# Altium footprint library canDrive_comp_pcb_lib.PcbLib: 33 footprints (part 1 of 3)
Each footprint in its own frame and in the unit in brackets; x right, y up, seen from the top. Pads: shape width x height; smd on the part's side, far side on the other; paste and mask are expansions set on the pad; w line width, h text height; cw(c..) or ccw(c..) is an arc to the next point about the centre after c.
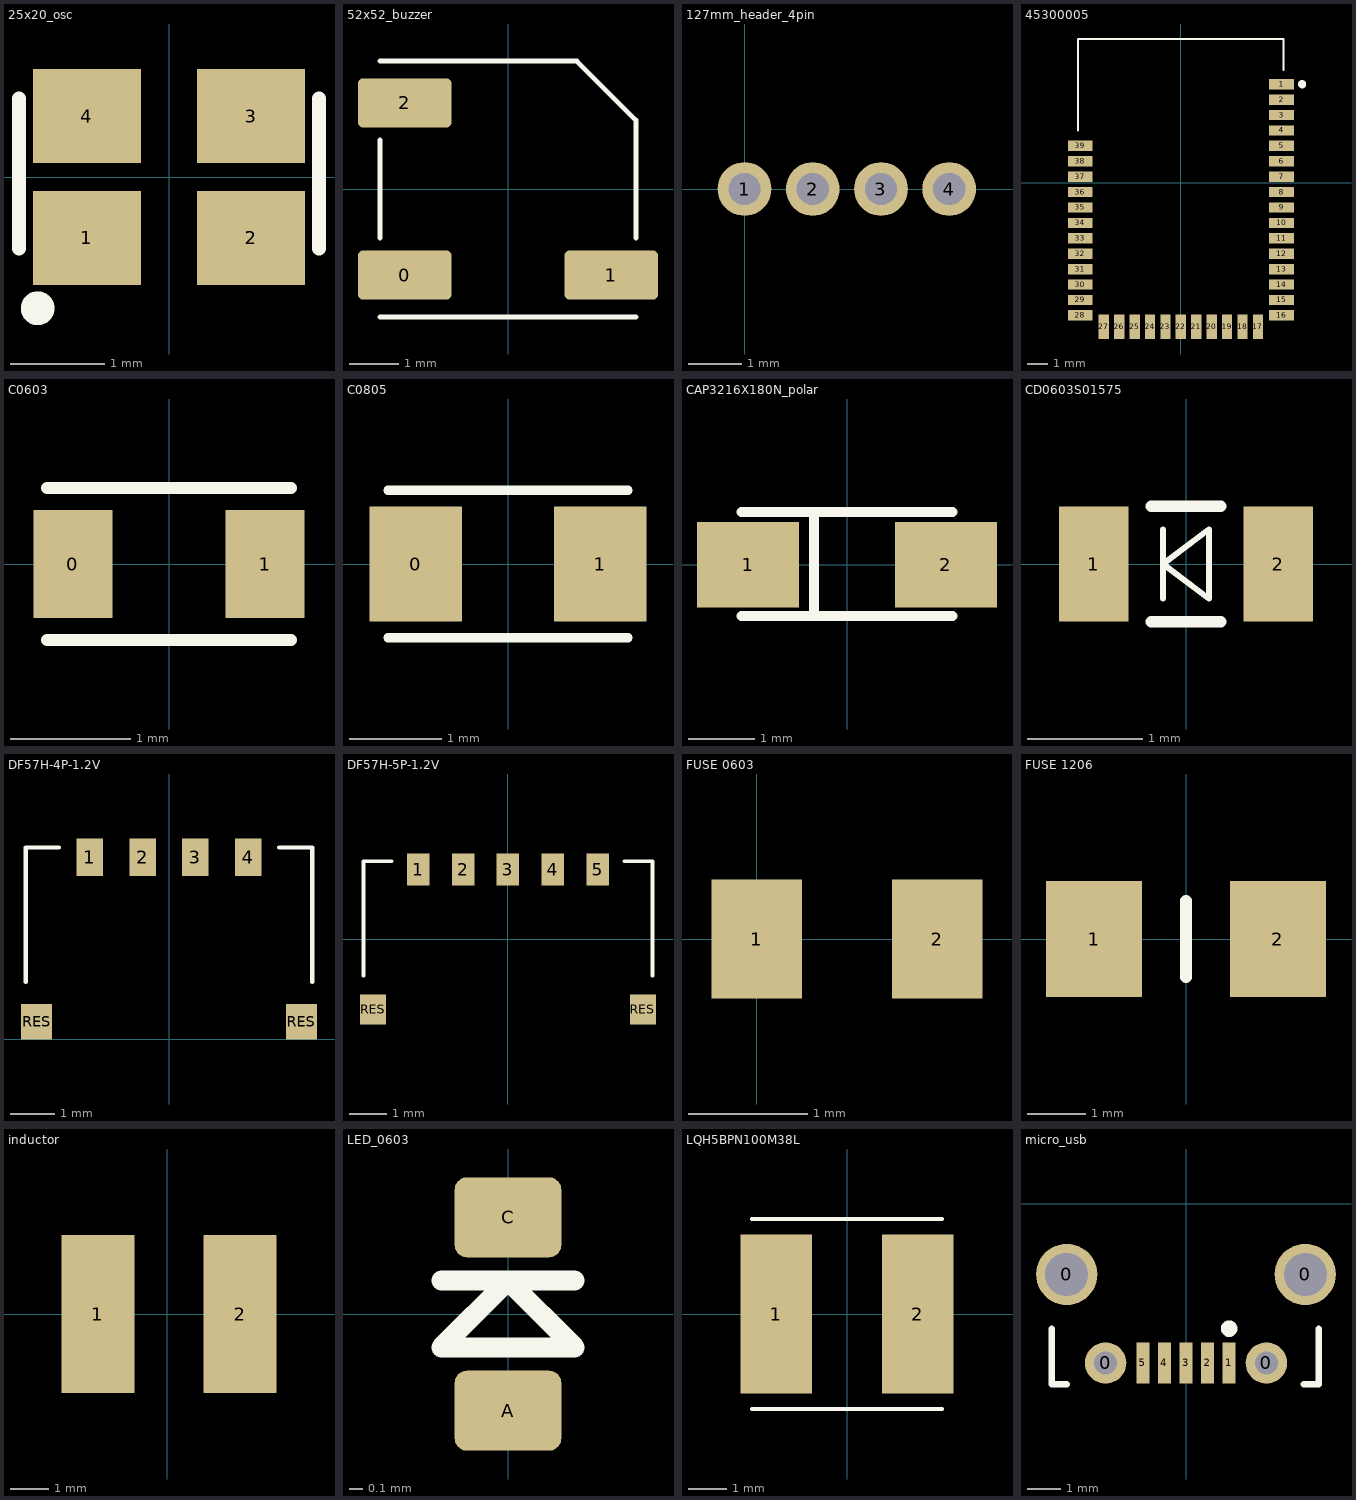
[diagram p0: the footprints below, top view; thin cyan lines are the x and y axes]

## 25x20_osc [mm]
pads (4):
  rect 1.15x1 smd paste+0: 1(-0.875,-0.65) 2(0.875,-0.65) 3(0.875,0.65) 4(-0.875,0.65)
Top Overlay:
  circle w0.2: c-1.4,-1.4 r0.08
  lines w0.15: -1.6,-0.762 -1.6,0.838 ; 1.6,-0.762 1.6,0.838
3D body "3dmodel.step": height 0.52, standoff 0, extent -1.25,-1 1.25,1

## 52x52_buzzer [mm]
pads (3):
  rrect20% 1.9x1 smd: 0(-2.1,-1.75) 1(2.1,-1.75) 2(-2.1,1.75)
Top Overlay:
  lines w0.1: -2.6,-2.6 2.6,-2.6 ; -2.6,-1 -2.6,1 ; -2.6,2.6 1.4,2.6 2.6,1.4 2.6,-1
3D body: height 19.9, standoff -4.8, extent 0.1,-3.5 0.1,-3.5
3D body: height 2, standoff 0, extent -2.6,-2.6 2.6,2.6

## 127mm_header_4pin [mm]
pads (4):
  round 1 hole 0.6: 1(0,0) 2(1.27,0) 3(2.54,0) 4(3.81,0)
Bottom Overlay:
  lines w0.2: -0.885,0 -0.885,-1 4.7,-1 4.7,1 0,1

## 45300005 [mm]
pads (39):
  rect 1.2x0.5 smd: 1(4.9,4.8) 2(4.9,4.05) 3(4.9,3.3) 4(4.9,2.55) 5(4.9,1.8) 6(4.9,1.05) 7(4.9,0.3) 8(4.9,-0.45) 9(4.9,-1.2) 10(4.9,-1.95) 11(4.9,-2.7) 12(4.9,-3.45) 13(4.9,-4.2) 14(4.9,-4.95) 15(4.9,-5.7) 16(4.9,-6.45) 28(-4.9,-6.45) 29(-4.9,-5.7) 30(-4.9,-4.95) 31(-4.9,-4.2) 32(-4.9,-3.45) 33(-4.9,-2.7) 34(-4.9,-1.95) 35(-4.9,-1.2) 36(-4.9,-0.45) 37(-4.9,0.3) 38(-4.9,1.05) 39(-4.9,1.8)
  rect 0.5x1.2 smd: 17(3.75,-7) 18(3,-7) 19(2.25,-7) 20(1.5,-7) 21(0.75,-7) 22(0,-7) 23(-0.75,-7) 24(-1.5,-7) 25(-2.25,-7) 26(-3,-7) 27(-3.75,-7)
Top Overlay:
  lines w0.1: -5,2.55 -5,7 5,7 5,5.5
  lines w0.2: 5.9,4.7 ccw(c5.9,4.8) 5.9,4.9 ccw(c5.9,4.8) 5.9,4.7
3D body "453-00005.stp": height 2.3, standoff 0, extent -5,-7 5,7

## C0603 [mm] "Imperial 0603"
pads (2):
  rect 0.66x0.9 smd: 0(-0.8,0) 1(0.8,0)
Top Overlay:
  lines w0.1: -1.016,-0.635 1.016,-0.635 ; -1.016,0.635 1.016,0.635
3D body "Cap0603.step": height 0.78, standoff -0.02, extent -0.8,-0.4 0.8,0.4

## C0805 [mm] "Imperial 0805"
pads (2):
  rect 1x1.25 smd: 0(-1,0) 1(1,0)
Top Overlay:
  lines w0.1: -1.3,-0.8 1.3,-0.8 ; -1.3,0.8 1.3,0.8
3D body "Cap0805.step": height 0.9, standoff 0, extent -1,-0.625 1,0.625

## CAP3216X180N_polar [mm]
pads (2):
  rect 1.55x1.3 smd: 1(-1.5,0) 2(1.5,0)
Top Overlay:
  lines w0.1: -0.6,0.792 -0.5,0.792 -0.55,0.792
  lines w0.15: -1.6,-0.775 1.6,-0.775 ; -1.6,0.8 1.6,0.8 ; -0.5,-0.775 -0.5,0.792
3D body "TAJA475K016RNJV.stp": height 1.8, standoff 0, extent -1.6,-0.775 1.6,0.775

## CD0603S01575 [mm]
pads (2):
  rect 0.6x1 smd: 1(-0.8,0) 2(0.8,0)
Top Overlay:
  lines w0.05: -0.2,-0.3 -0.2,0.3 ; -0.2,0 0.2,0.3 0.2,-0.3 -0.2,0
  lines w0.1: -0.3,-0.5 0.3,-0.5 ; -0.3,0.5 0.3,0.5

## DF57H-4P-1.2V [mm] "DF57H-4P-1.2V Hirose HDR Lighting Connector"
pads (6):
  rect 0.6x0.85 smd: 1(-1.8,4.125) 2(-0.6,4.125) 3(0.6,4.125) 4(1.8,4.125)
  rect 0.7x0.8 smd: RES(-3,0.4) RES(3,0.4)
Top Overlay:
  lines w0.1: -3.25,1.3 -3.25,4.35 -2.5,4.35 ; 2.5,4.35 3.25,4.35 3.25,1.3
3D body "DF57H-4P-1.2V.stp": height 1.38, standoff -0.02, extent -3.175,0.111 3.325,4.461

## DF57H-5P-1.2V [mm] "DF57H-4P-1.2V Hirose HDR Lighting Connector"
pads (7):
  rect 0.6x0.85 smd: 1(-2.4,1.863) 2(-1.2,1.863) 3(0,1.863) 4(1.2,1.863) 5(2.4,1.863)
  rect 0.7x0.8 smd: RES(-3.6,-1.863) RES(3.6,-1.863)
Top Overlay:
  lines w0.1: -3.85,-0.962 -3.85,2.087 -3.1,2.087 ; 3.1,2.087 3.85,2.087 3.85,-0.962
3D body "DF57H-5P-1.2V.stp": height 1.45, standoff 0.05, extent -3.85,-2.175 3.85,2.175

## FUSE 0603 [mm]
pads (2):
  rect 0.76x1 smd: 1(0,0) 2(1.52,0)
3D body "User Library-Fast Acting Surface-Mount Fuses.step": height 0.8, standoff 0, extent -0.038,-0.381 1.562,0.421

## FUSE 1206 [mm]
pads (2):
  rect 1.65x2 smd: 1(-1.585,0) 2(1.585,0)
Top Overlay:
  lines w0.2: 0,-0.662 0,0.662
3D body "0466001.NRHF.stp": height 0.66, standoff 0, extent -1.587,-0.762 1.588,0.762

## inductor [mm]
pads (2):
  rect 1.9x4.1 smd: 1(-1.8,0) 2(1.9,0)
3D body: height 4, standoff 0, extent -2.45,-2.325 2.45,2.525

## LED_0603 [mm]
pads (2):
  rrect30% 0.8x0.6 smd: A(0,-0.725) C(0,0.725)
Top Overlay:
  lines w0.15: -0.5,0.25 0.5,0.25 ; -0.5,-0.25 0,0.25 0.5,-0.25 -0.5,-0.25
3D body "User Library-LED 0603.step": height 0.7, standoff 0, extent -0.4,-0.8 0.4,0.801

## LQH5BPN100M38L [mm]
pads (2):
  rect 1.85x4.1 smd: 1(-1.825,0) 2(1.825,0)
Top Overlay:
  lines w0.1: -2.45,-2.45 2.45,-2.45 ; -2.45,2.45 2.45,2.45
3D body "LQH5BPN100M38L.stp": height 4.1, standoff 0, extent -2.565,-2.45 2.565,2.45

## micro_usb [mm]
pads (9):
  round 1.85 hole 1.3: 0(-3.6,-2.13) 0(3.6,-2.13)
  round 1.25 hole 0.7: 0(-2.425,-4.8) 0(2.425,-4.8)
  rect 0.4x1.25 smd: 1(1.3,-4.8) 2(0.65,-4.8) 4(-0.65,-4.8) 5(-1.3,-4.8)
  rect 0.4x1.25 smd paste+0: 3(0,-4.8)
Top Overlay:
  circle w0.25: c1.3,-3.765 r0.125
  lines w0.2: -4.05,-3.765 -4.05,-5.44 -3.6,-5.44 ; 3.55,-5.44 4,-5.44 4,-3.765
3D body "Conn_Molex_47346-1001_eec.STEP": height 2.68, standoff -0.03, extent -3.9,-5.318 3.9,-0.318